# Altium footprint library QUTMS_Microfit.PcbLib: 64 footprints (part 1 of 4)
Each footprint in its own frame and in the unit in brackets; x right, y up, seen from the top. Pads: shape width x height; smd on the part's side, far side on the other; paste and mask are expansions set on the pad; w line width, h text height; cw(c..) or ccw(c..) is an arc to the next point about the centre after c.
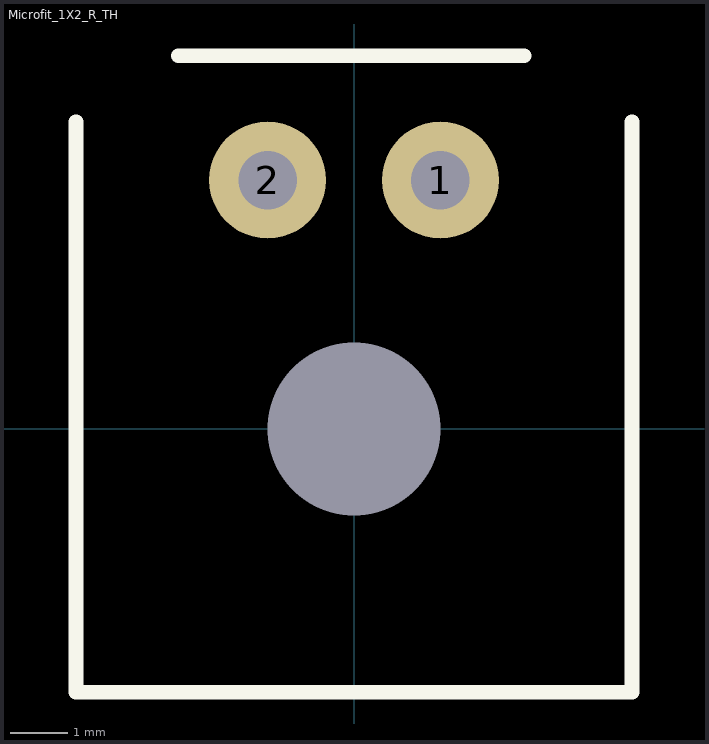
[diagram p0: the footprints below, top view; thin cyan lines are the x and y axes]

## Microfit_1X2_R_SMD [mil]

## Microfit_1X2_R_TH [mil]
pads (3):
  round 80 hole 40: 1(59.06,170) 2(-59.06,170)
  round 0 hole 118.11 mask+10: NC(0,0)
Top Overlay:
  lines w10: -190,210 -190,-180 190,-180 190,210 ; -120,255 116.22,255
3D body "436500201.stp": height 223.43, standoff -127.17, extent -189.96,-179.88 189.97,209.89

## Microfit_1X2_V_SMD [mil]

## Microfit_1X2_V_TH [mil]

## Microfit_1X3_R_SMD [mil]

## Microfit_1X3_R_TH [mil]

## Microfit_1X3_V_SMD [mil]

## Microfit_1X3_V_TH [mil]

## Microfit_1X4_R_SMD [mil]

## Microfit_1X4_R_TH [mil]

## Microfit_1X4_V_SMD [mil]

## Microfit_1X4_V_TH [mil]

## Microfit_1X5_R_SMD [mil]

## Microfit_1X5_R_TH [mil]

## Microfit_1X5_V_SMD [mil]

## Microfit_1X5_V_TH [mil]